# Altium integrated library Кондер для отладки.IntLib: 1 symbol
Pins are listed as number, name and electrical type; pins without a type are passive.

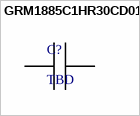
[diagram p0: symbol GRM1885C1HR30CD01D]

## GRM1885C1HR30CD01D
designator C?, comment TBD
0.3 pF Â±0.25pF 50V Ceramic Capacitor C0G, NP0 0603 (1608 Metric); Типоразмер: 0603; Емкость: Отладка; Т коэф. емкости: C0G(NP0); Напряжение: 50 В; Точность: 0.5%
footprint CAPC1608X90N
pins: 1, 2